# EAGLE library part LT3684 (library PowerProducts)
LT-Spice library generated with : ltspice.ulp from: D:/Program Files (x86)/LTC/LTspiceIV/lib/sym/PowerProducts/LT3686*.asy at 07.10.2012 16:34:33
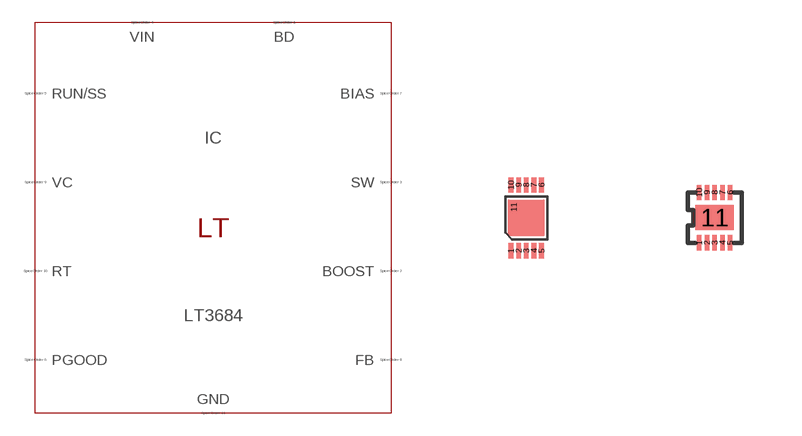
[diagram p85: symbol with the pads of MSOP10(MSE); footprints MSOP10(MSE), DFN10(DD)]

Designator prefix IC

## LT3684MSE (SPICEMODEL: LT3684.sub; SPICEPREFIX: X; VALUE2: LT3684)  [MSOP10(MSE)]
1  BD  pas
2  BOOST  pas
3  SW  pas
4  VIN  pas
5  RUN/SS  pas
6  PGOOD  pas
7  BIAS  pas
8  FB  pas
9  VC  pas
10  RT  pas
11  GND  pas

## LT3684 (SPICEMODEL: LT3684.sub; SPICEPREFIX: X; VALUE2: LT3684)  [DFN10(DD)]
Pads as for MSOP10(MSE)

## Footprint MSOP10(MSE) (pad centres in mm)
Package generated from: MSOP10(MSE).asc (!PADS-POWERPCB-V9.3-BASIC! DESIGN DATABASE ASCII FILE 1.0) with :import-pads-powerpcb-v5.ulp Version 1.0.1 at 04.10.2012 14:11:19
smd 0.116 x 0.387: 1 -0.381,-0.823; 2 -0.191,-0.823; 3 0,-0.823; 4 0.191,-0.823; 5 0.381,-0.823; 6 0.381,0.823; 7 0.191,0.823; 8 0,0.823; 9 -0.191,0.823; 10 -0.381,0.823
smd 0 x 0.097: 11 -0.31,0.271

## Footprint DFN10(DD) (pad centres in mm)
Package generated from: DFN10(DD).asc (!PADS-POWERPCB-V9.3-BASIC! DESIGN DATABASE ASCII FILE 1.0) with :import-pads-powerpcb-v5.ulp Version 1.0.1 at 04.10.2012 14:11:16
smd 0.116 x 0.387: 1 -0.387,-0.629; 2 -0.194,-0.629; 3 0,-0.629; 4 0.194,-0.629; 5 0.387,-0.629; 6 0.387,0.629; 7 0.194,0.629; 8 0,0.629; 9 -0.194,0.629; 10 -0.387,0.629
smd 0.968 x 0.629: 11 0,0